# Altium integrated library ST Microelectronics.IntLib: 11 symbols
Pins are listed as number, name and electrical type; pins without a type are passive.

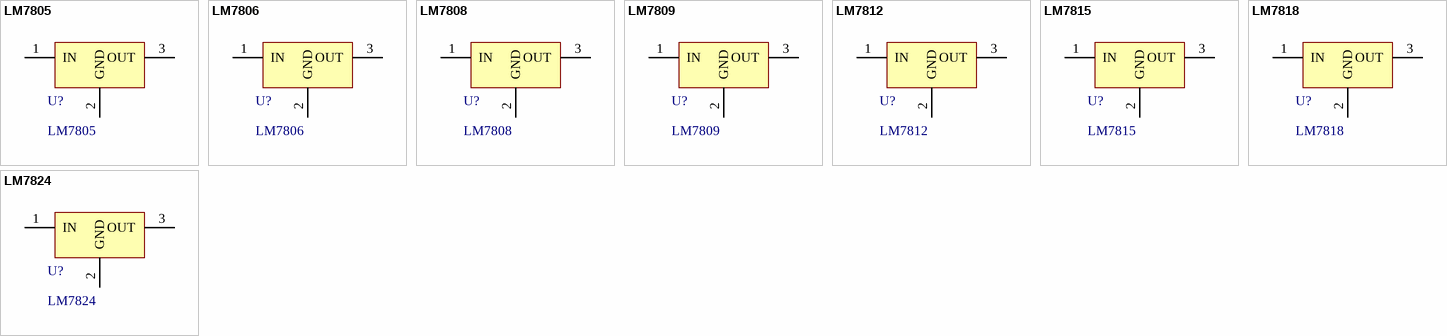
[diagram p0: symbols LM7805 to LM7824]

## LM7805
designator U?
LM7805 - Positive Voltage Regulator
footprint TO-220
pins: 1 IN (power), 2 GND (power), 3 OUT (power)

## LM7806
designator U?
LM7806 - Positive Voltage Regulator
footprint TO-220
pins: 1 IN (power), 2 GND (power), 3 OUT (power)

## LM7808
designator U?
LM7808 - Positive Voltage Regulator
footprint TO-220
pins: 1 IN (power), 2 GND (power), 3 OUT (power)

## LM7809
designator U?
LM7809 - Positive Voltage Regulator
footprint TO-220
pins: 1 IN (power), 2 GND (power), 3 OUT (power)

## LM7812
designator U?
LM7812 - Positive Voltage Regulator
footprint TO-220
pins: 1 IN (power), 2 GND (power), 3 OUT (power)

## LM7815
designator U?
LM7815 - Positive Voltage Regulator
footprint TO-220
pins: 1 IN (power), 2 GND (power), 3 OUT (power)

## LM7818
designator U?
LM7818 - Positive Voltage Regulator
footprint TO-220
pins: 1 IN (power), 2 GND (power), 3 OUT (power)

## LM7824
designator U?
LM7824 - Positive Voltage Regulator
footprint TO-220
pins: 1 IN (power), 2 GND (power), 3 OUT (power)


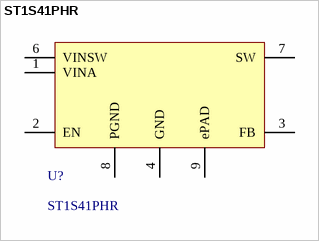
[diagram p1: symbol ST1S41PHR]

## ST1S41PHR
designator U?
4A Step Down Switching Regulator
footprint HSOP8
pins: 1 VINA (power), 2 EN, 3 FB, 4 GND (power), 6 VINSW (power), 7 SW (power), 8 PGND (power), 9 ePAD (power)


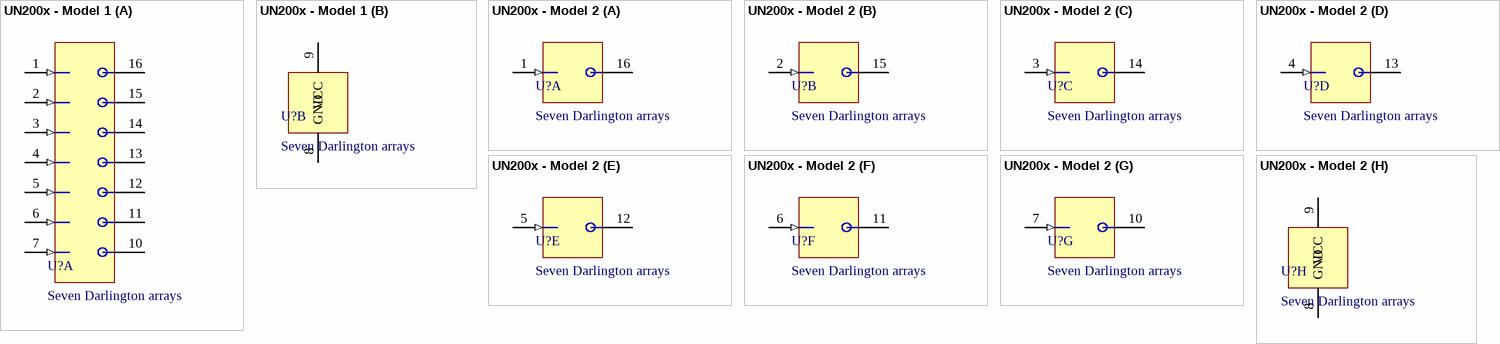
[diagram p2: symbols UN200x - Model 1 to UN200x - Model 2]

## UN200x - Model 1
designator U?, comment Seven Darlington arrays
footprint PDIP16
part A pins: 1 (in), 2 (in), 3 (in), 4 (in), 5 (in), 6 (in), 7 (in), 10 (oc), 11 (oc), 12 (oc), 13 (oc), 14 (oc), 15 (oc), 16 (oc)
part B pins: 8 GND (power), 9 VCC (power)

## UN200x - Model 2
designator U?, comment Seven Darlington arrays
footprint PDIP16
part A pins: 1 (in), 16 (oc)
part B pins: 2 (in), 15 (oc)
part C pins: 3 (in), 14 (oc)
part D pins: 4 (in), 13 (oc)
part E pins: 5 (in), 12 (oc)
part F pins: 6 (in), 11 (oc)
part G pins: 7 (in), 10 (oc)
part H pins: 8 GND (power), 9 VCC (power)